# Altium schematic symbol library CRCW040213K0FKED.SchLib: 1 symbol
Pins are listed as number, name and electrical type; pins without a type are passive.

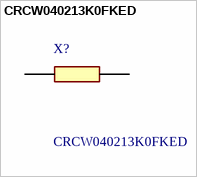
[diagram p0: symbol CRCW040213K0FKED]

## CRCW040213K0FKED
designator X?
Vishay CRCW Series Thick Film Surface Mount Resistor 0402 Case 13k +/-1% 0.063W +/-100ppm/C; Geometry.Height: 0.4mm; Manufacturer_Name: Vishay; Manufacturer_Part_Number: CRCW040213K0FKED; Mouser Part Number: 71-CRCW0402-13K-E3; Mouser Price/Stock: https://www.mouser.co.uk/ProductDetail/Vishay-Dale/CRCW040213K0FKED?qs=8wskyPz2qw0HXggAygo%252BmA%3D%3D; Arrow Part Number: CRCW040213K0FKED; Arrow Price/Stock: https://www.arrow.com/en/products/crcw040213k0fked/vishay?region=nac; Datasheet Link: http://www.vishay.com/docs/20035/dcrcwe3.pdf
footprint RESC1005X40N
pins: 1, 2